# Altium schematic symbol library Esquematico_lib.SchLib: 4 symbols
Pins are listed as number, name and electrical type; pins without a type are passive.

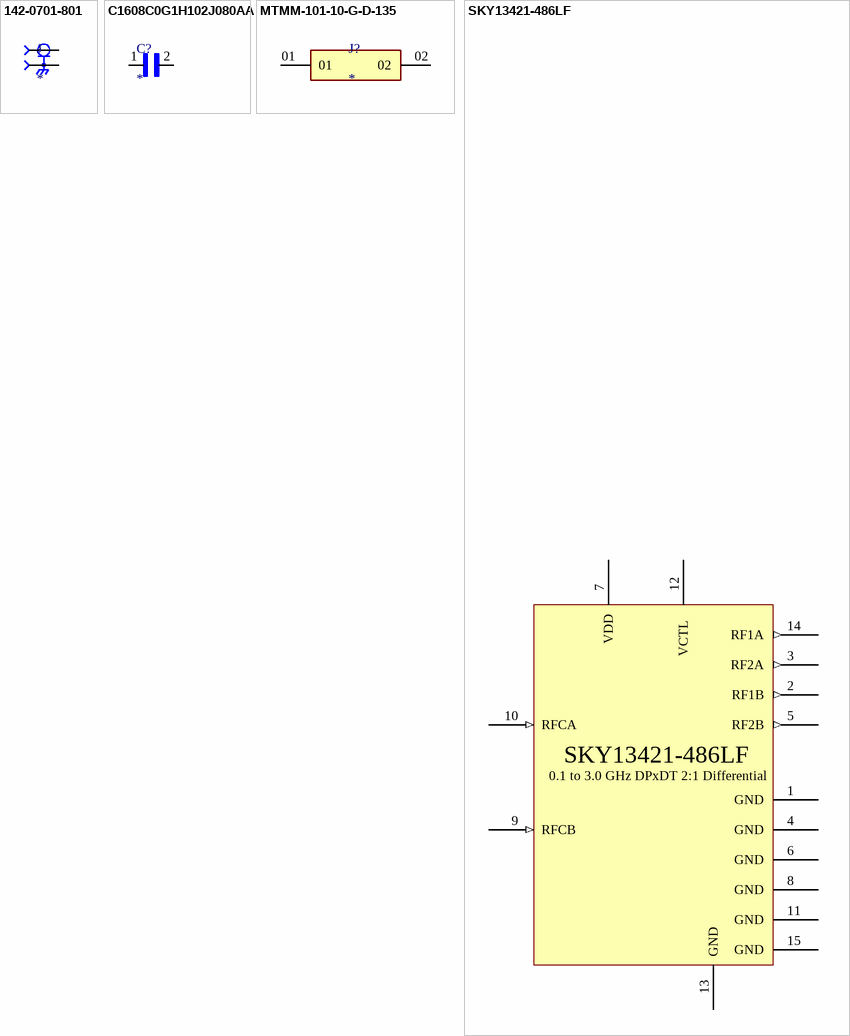
[diagram p0: symbols 142-0701-801 to SKY13421-486LF]

## 142-0701-801
designator J
SMA Jack | End Launch | Round Contact; MP: 142-0701-801; MF: Cinch Connectivity; Price: None; Package: None; Value: *; Availability: Unavailable; SnapEDA_Link: https://www.snapeda.com/parts/142-0701-801/Cinch%20Connectivity%20Solutions%20Johnson/view-part/107536/?ref=snap
footprint CINCH_142-0701-801
pins: 1, S1 2, S2 2, S3 2, S4 2

## C1608C0G1H102J080AA
designator C?
1000pF Â±5% 50V Ceramic Capacitor C0G, NP0 0603 (1608 Metric); MP: C1608C0G1H102J080AA; MF: TDK; Purchase-URL: https://pricing.snapeda.com/search/part/C1608C0G1H102J080AA/?ref=eda; Price: None; SnapEDA_Link: https://www.snapeda.com/parts/C1608C0G1H102J080AA/TDK-Lambda+Americas+Inc/view-part/?ref=snap; Check_prices: https://www.snapeda.com/parts/C1608C0G1H102J080AA/TDK-Lambda+Americas+Inc/view-part/?ref=eda; Package: 1608 TDK; Availability: In Stock; Value: *
footprint CAPC1608X90N
pins: 1, 2

## MTMM-101-10-G-D-135
designator J?
Connector Header Through Hole 2 position; MF: Samtec; MP: MTMM-101-10-G-D-135; Availability: In Stock; Value: *; Price: None; Check_prices: https://www.snapeda.com/parts/MTMM-101-10-G-D-135/Samtec/view-part/?ref=eda; Package: None; Purchase-URL: https://pricing.snapeda.com/search/part/MTMM-101-10-G-D-135/?ref=eda; SnapEDA_Link: https://www.snapeda.com/parts/MTMM-101-10-G-D-135/Samtec/view-part/?ref=snap
footprint SAMTEC_MTMM-101-10-G-D-135
pins: 01, 02

## SKY13421-486LF
designator ?
0.1 to 3.0 GHz DPxDT 2:1 Differential Switch
footprint SKY13421_486LF (DPxDT 2:1 DIFFERENTIAL SWITCH)
pins: 1 GND, 2 RF1B (out), 3 RF2A (out), 4 GND, 5 RF2B (out), 6 GND, 7 VDD, 8 GND, 9 RFCB (in), 10 RFCA (in), 11 GND, 12 VCTL  , 13 GND, 14 RF1A (out), 15 GND
text: 0.1 to 3.0 GHz DPxDT 2:1 Differential